# Altium schematic symbol library VND600.SchLib: 1 symbol
Pins are listed as number, name and electrical type; pins without a type are passive.

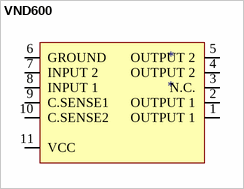
[diagram p0: symbol VND600]

## VND600
designator *
pins: 1 OUTPUT 1, 2 OUTPUT 1, 3 N.C., 4 OUTPUT 2, 5 OUTPUT 2, 6 GROUND, 7 INPUT 2, 8 INPUT 1, 9 C.SENSE1, 10 C.SENSE2, 11 VCC